# Altium integrated library TI Power Management Buck-Boost Regulator.IntLib: 25 symbols (part 1 of 2)
Pins are listed as number, name and electrical type; pins without a type are passive.

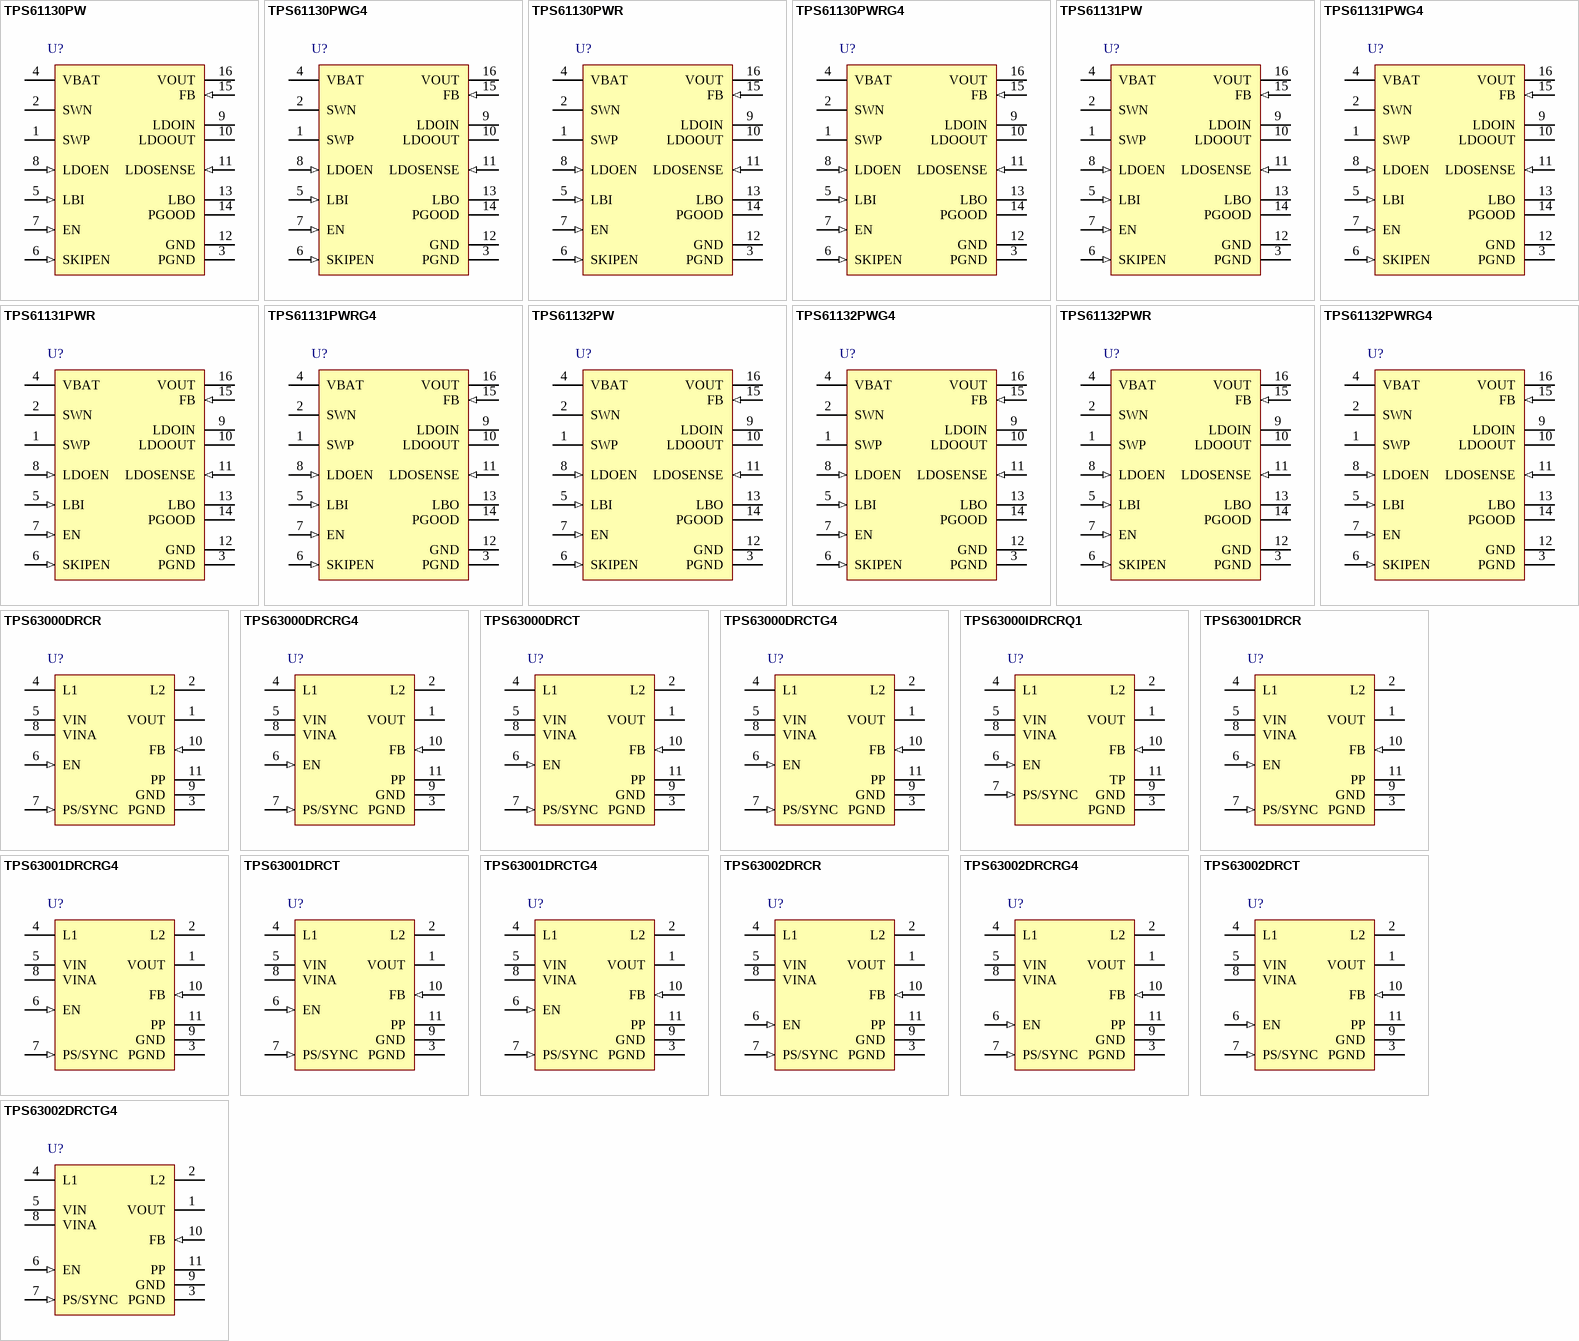
[diagram p0: symbols TPS61130PW to TPS63002DRCTG4]

## TPS61130PW
designator U?
Boost SEPIC Adjustable Converter with 1.8 to 5.5 V Input and 2.5 to 5.5 V Output, -40 to 85 degC, 16-Pin TSSOP (PW), Green (RoHS & no Sb/Br); Manufacturer: Texas Instruments; PartNumber: TPS61130PW; Iout(Max)(A): 1.1; Iq(Typ)(mA): 0.04; Power Good: TRUE; Regulated Outputs(#): 2; SubFamily: Buck-Boost Regulator; Switching Frequency(Max)(kHz): 600; Topology: Boost, SEPIC; Vin(Max)(V): 5.5; Vin(Min)(V): 1.8; Vout(Min)(V): 2.5; DatasheetVersion: SLVS431B; PackageVersion: revG, Feb-2011; PackageReference: PW16; PackageDescription: 16-Pin Plastic Thin Small Outline Package 5 x 4.4 mm Body ,0.65 mm Pitch; Supplier 1: Digi-Key; Supplier Part Number 1: 296-13521-5-ND; Supplier 2: Newark; Supplier Part Number 2: 77C0687; Supplier 3: Mouser; Supplier Part Number 3: 595-TPS61130PW; Eco-Plan: Green (RoHS & no Sb/Br); Synchronous Rectification: TRUE; Vout(Max)(V): 5.5; Mounting Technology: Surface Mount; Code_JEDEC: MO-153; ComponentLink1Description: Datasheet; ComponentLink1URL: http://www.ti.com/general/docs/lit/getliterature.tsp?genericPartNumber=TPS61130&fileType=pdf; ComponentLink2Description: Package Specification; ComponentLink2URL: http://www.ti.com/litv/pdf/mpds361
footprint PW16_N (TSOP, 16-Leads, Body 5x4.4mm, Pitch 0.65mm, IPC Medium Density)
footprint PW16_L (TSOP, 16-Leads, Body 5x4.4mm, Pitch 0.65mm, IPC High Density)
footprint PW16_M (TSOP, 16-Leads, Body 5x4.4mm, Pitch 0.65mm, IPC Low Density)
pins: 1 SWP (power) "DC/DC rectifying switch input", 2 SWN (power) "DC/DC switch input", 3 PGND (power) "Power ground", 4 VBAT (power) "Supply pin", 5 LBI (in) "Low battery comparator input (comparator enabled with EN)", 6 SKIPEN (in) "Enable/disable power save mode (1/VBAT enabled, 0/GND disabled)", 7 EN (in) "DC/DC-enable input. (1/VBAT enabled, 0/GND disabled)", 8 LDOEN (in) "LDO-enable input (1/LDOIN enabled, 0/GND disabled)", 9 LDOIN (power) "LDO input", 10 LDOOUT (power) "LDO output", 11 LDOSENSE (in) "LDO feedback for voltage adjustment, must be connected to LDOOUT at fixed output voltage versions", 12 GND (power) "Control/logic ground", 13 LBO (hiz) "Low battery comparator output (open drain)", 14 PGOOD (hiz) "DC/DC output power good (1 : good, 0 : failure) (open drain)", 15 FB (in) "DC/DC voltage feedback of adjustable versions", 16 VOUT (power) "DC/DC output"

## TPS61130PWG4
designator U?
Boost SEPIC Adjustable Converter with 1.8 to 5.5 V Input and 2.5 to 5.5 V Output, -40 to 85 degC, 16-Pin TSSOP (PW), Green (RoHS & no Sb/Br); Manufacturer: Texas Instruments; PartNumber: TPS61130PWG4; Iout(Max)(A): 1.1; Iq(Typ)(mA): 0.04; Power Good: TRUE; Regulated Outputs(#): 2; SubFamily: Buck-Boost Regulator; Switching Frequency(Max)(kHz): 600; Topology: Boost, SEPIC; Vin(Max)(V): 5.5; Vin(Min)(V): 1.8; Vout(Min)(V): 2.5; DatasheetVersion: SLVS431B; PackageVersion: revG, Feb-2011; PackageReference: PW16; PackageDescription: 16-Pin Plastic Thin Small Outline Package 5 x 4.4 mm Body ,0.65 mm Pitch; Supplier 1: Digi-Key; Supplier Part Number 1: TPS61130PWG4-ND; Supplier 2: Newark; Supplier Part Number 2: 54K1726; Supplier 3: Mouser; Supplier Part Number 3: 595-TPS61130PWG4; Eco-Plan: Green (RoHS & no Sb/Br); Synchronous Rectification: TRUE; Vout(Max)(V): 5.5; Mounting Technology: Surface Mount; Code_JEDEC: MO-153; ComponentLink1Description: Datasheet; ComponentLink1URL: http://www.ti.com/general/docs/lit/getliterature.tsp?genericPartNumber=TPS61130&fileType=pdf; ComponentLink2Description: Package Specification; ComponentLink2URL: http://www.ti.com/litv/pdf/mpds361
footprint PW16_N (TSOP, 16-Leads, Body 5x4.4mm, Pitch 0.65mm, IPC Medium Density)
footprint PW16_L (TSOP, 16-Leads, Body 5x4.4mm, Pitch 0.65mm, IPC High Density)
footprint PW16_M (TSOP, 16-Leads, Body 5x4.4mm, Pitch 0.65mm, IPC Low Density)
pins: 1 SWP (power) "DC/DC rectifying switch input", 2 SWN (power) "DC/DC switch input", 3 PGND (power) "Power ground", 4 VBAT (power) "Supply pin", 5 LBI (in) "Low battery comparator input (comparator enabled with EN)", 6 SKIPEN (in) "Enable/disable power save mode (1/VBAT enabled, 0/GND disabled)", 7 EN (in) "DC/DC-enable input. (1/VBAT enabled, 0/GND disabled)", 8 LDOEN (in) "LDO-enable input (1/LDOIN enabled, 0/GND disabled)", 9 LDOIN (power) "LDO input", 10 LDOOUT (power) "LDO output", 11 LDOSENSE (in) "LDO feedback for voltage adjustment, must be connected to LDOOUT at fixed output voltage versions", 12 GND (power) "Control/logic ground", 13 LBO (hiz) "Low battery comparator output (open drain)", 14 PGOOD (hiz) "DC/DC output power good (1 : good, 0 : failure) (open drain)", 15 FB (in) "DC/DC voltage feedback of adjustable versions", 16 VOUT (power) "DC/DC output"

## TPS61130PWR
designator U?
Boost SEPIC Adjustable Converter with 1.8 to 5.5 V Input and 2.5 to 5.5 V Output, -40 to 85 degC, 16-Pin TSSOP (PW), Green (RoHS & no Sb/Br); Manufacturer: Texas Instruments; PartNumber: TPS61130PWR; Iout(Max)(A): 1.1; Iq(Typ)(mA): 0.04; Power Good: TRUE; Regulated Outputs(#): 2; SubFamily: Buck-Boost Regulator; Switching Frequency(Max)(kHz): 600; Topology: Boost, SEPIC; Vin(Max)(V): 5.5; Vin(Min)(V): 1.8; Vout(Min)(V): 2.5; DatasheetVersion: SLVS431B; PackageVersion: revG, Feb-2011; PackageReference: PW16; PackageDescription: 16-Pin Plastic Thin Small Outline Package 5 x 4.4 mm Body ,0.65 mm Pitch; Supplier 1: Digi-Key; Supplier Part Number 1: TPS61130PWR-ND; Supplier 2: Newark; Supplier Part Number 2: 77C0688; Supplier 3: Mouser; Supplier Part Number 3: 595-TPS61130PWR; Eco-Plan: Green (RoHS & no Sb/Br); Synchronous Rectification: TRUE; Vout(Max)(V): 5.5; Mounting Technology: Surface Mount; Code_JEDEC: MO-153; ComponentLink1Description: Datasheet; ComponentLink1URL: http://www.ti.com/general/docs/lit/getliterature.tsp?genericPartNumber=TPS61130&fileType=pdf; ComponentLink2Description: Package Specification; ComponentLink2URL: http://www.ti.com/litv/pdf/mpds361
footprint PW16_N (TSOP, 16-Leads, Body 5x4.4mm, Pitch 0.65mm, IPC Medium Density)
footprint PW16_L (TSOP, 16-Leads, Body 5x4.4mm, Pitch 0.65mm, IPC High Density)
footprint PW16_M (TSOP, 16-Leads, Body 5x4.4mm, Pitch 0.65mm, IPC Low Density)
pins: 1 SWP (power) "DC/DC rectifying switch input", 2 SWN (power) "DC/DC switch input", 3 PGND (power) "Power ground", 4 VBAT (power) "Supply pin", 5 LBI (in) "Low battery comparator input (comparator enabled with EN)", 6 SKIPEN (in) "Enable/disable power save mode (1/VBAT enabled, 0/GND disabled)", 7 EN (in) "DC/DC-enable input. (1/VBAT enabled, 0/GND disabled)", 8 LDOEN (in) "LDO-enable input (1/LDOIN enabled, 0/GND disabled)", 9 LDOIN (power) "LDO input", 10 LDOOUT (power) "LDO output", 11 LDOSENSE (in) "LDO feedback for voltage adjustment, must be connected to LDOOUT at fixed output voltage versions", 12 GND (power) "Control/logic ground", 13 LBO (hiz) "Low battery comparator output (open drain)", 14 PGOOD (hiz) "DC/DC output power good (1 : good, 0 : failure) (open drain)", 15 FB (in) "DC/DC voltage feedback of adjustable versions", 16 VOUT (power) "DC/DC output"

## TPS61130PWRG4
designator U?
Boost SEPIC Adjustable Converter with 1.8 to 5.5 V Input and 2.5 to 5.5 V Output, -40 to 85 degC, 16-Pin TSSOP (PW), Green (RoHS & no Sb/Br); Manufacturer: Texas Instruments; PartNumber: TPS61130PWRG4; Iout(Max)(A): 1.1; Iq(Typ)(mA): 0.04; Power Good: TRUE; Regulated Outputs(#): 2; SubFamily: Buck-Boost Regulator; Switching Frequency(Max)(kHz): 600; Topology: Boost, SEPIC; Vin(Max)(V): 5.5; Vin(Min)(V): 1.8; Vout(Min)(V): 2.5; DatasheetVersion: SLVS431B; PackageVersion: revG, Feb-2011; PackageReference: PW16; PackageDescription: 16-Pin Plastic Thin Small Outline Package 5 x 4.4 mm Body ,0.65 mm Pitch; Supplier 1: Digi-Key; Supplier Part Number 1: TPS61130PWRG4-ND; Supplier 2: Newark; Supplier Part Number 2: 54K1727; Supplier 3: Mouser; Supplier Part Number 3: 595-TPS61130PWRG4; Eco-Plan: Green (RoHS & no Sb/Br); Synchronous Rectification: TRUE; Vout(Max)(V): 5.5; Mounting Technology: Surface Mount; Code_JEDEC: MO-153; ComponentLink1Description: Datasheet; ComponentLink1URL: http://www.ti.com/general/docs/lit/getliterature.tsp?genericPartNumber=TPS61130&fileType=pdf; ComponentLink2Description: Package Specification; ComponentLink2URL: http://www.ti.com/litv/pdf/mpds361
footprint PW16_N (TSOP, 16-Leads, Body 5x4.4mm, Pitch 0.65mm, IPC Medium Density)
footprint PW16_L (TSOP, 16-Leads, Body 5x4.4mm, Pitch 0.65mm, IPC High Density)
footprint PW16_M (TSOP, 16-Leads, Body 5x4.4mm, Pitch 0.65mm, IPC Low Density)
pins: 1 SWP (power) "DC/DC rectifying switch input", 2 SWN (power) "DC/DC switch input", 3 PGND (power) "Power ground", 4 VBAT (power) "Supply pin", 5 LBI (in) "Low battery comparator input (comparator enabled with EN)", 6 SKIPEN (in) "Enable/disable power save mode (1/VBAT enabled, 0/GND disabled)", 7 EN (in) "DC/DC-enable input. (1/VBAT enabled, 0/GND disabled)", 8 LDOEN (in) "LDO-enable input (1/LDOIN enabled, 0/GND disabled)", 9 LDOIN (power) "LDO input", 10 LDOOUT (power) "LDO output", 11 LDOSENSE (in) "LDO feedback for voltage adjustment, must be connected to LDOOUT at fixed output voltage versions", 12 GND (power) "Control/logic ground", 13 LBO (hiz) "Low battery comparator output (open drain)", 14 PGOOD (hiz) "DC/DC output power good (1 : good, 0 : failure) (open drain)", 15 FB (in) "DC/DC voltage feedback of adjustable versions", 16 VOUT (power) "DC/DC output"

## TPS61131PW
designator U?
Boost SEPIC Voltage Converter with 1.8 to 5.5 V Input and 3.3 V Output, -40 to 85 degC, 16-Pin TSSOP (PW), Green (RoHS & no Sb/Br); Manufacturer: Texas Instruments; PartNumber: TPS61131PW; Iout(Max)(A): 1.1; Iq(Typ)(mA): 0.04; Power Good: TRUE; Preset Vout(V): 3.3; Regulated Outputs(#): 2; SubFamily: Buck-Boost Regulator; Switching Frequency(Max)(kHz): 600; Topology: Boost, SEPIC; Vin(Max)(V): 5.5; Vin(Min)(V): 1.8; DatasheetVersion: SLVS431B; PackageVersion: revG, Feb-2011; PackageReference: PW16; PackageDescription: 16-Pin Plastic Thin Small Outline Package 5 x 4.4 mm Body ,0.65 mm Pitch; Supplier 1: Digi-Key; Supplier Part Number 1: 296-13522-5-ND; Supplier 2: Newark; Supplier Part Number 2: 77C0689; Supplier 3: Mouser; Supplier Part Number 3: 595-TPS61131PW; Eco-Plan: Green (RoHS & no Sb/Br); Synchronous Rectification: TRUE; Vout(Max)(V): 3.3; Vout(Min)(V): 3.3; Mounting Technology: Surface Mount; Code_JEDEC: MO-153; ComponentLink1Description: Datasheet; ComponentLink1URL: http://www.ti.com/general/docs/lit/getliterature.tsp?genericPartNumber=TPS61131&fileType=pdf; ComponentLink2Description: Package Specification; ComponentLink2URL: http://www.ti.com/litv/pdf/mpds361
footprint PW16_N (TSOP, 16-Leads, Body 5x4.4mm, Pitch 0.65mm, IPC Medium Density)
footprint PW16_L (TSOP, 16-Leads, Body 5x4.4mm, Pitch 0.65mm, IPC High Density)
footprint PW16_M (TSOP, 16-Leads, Body 5x4.4mm, Pitch 0.65mm, IPC Low Density)
pins: 1 SWP (power) "DC/DC rectifying switch input", 2 SWN (power) "DC/DC switch input", 3 PGND (power) "Power ground", 4 VBAT (power) "Supply pin", 5 LBI (in) "Low battery comparator input (comparator enabled with EN)", 6 SKIPEN (in) "Enable/disable power save mode (1/VBAT enabled, 0/GND disabled)", 7 EN (in) "DC/DC-enable input. (1/VBAT enabled, 0/GND disabled)", 8 LDOEN (in) "LDO-enable input (1/LDOIN enabled, 0/GND disabled)", 9 LDOIN (power) "LDO input", 10 LDOOUT (power) "LDO output", 11 LDOSENSE (in) "LDO feedback for voltage adjustment, must be connected to LDOOUT at fixed output voltage versions", 12 GND (power) "Control/logic ground", 13 LBO (hiz) "Low battery comparator output (open drain)", 14 PGOOD (hiz) "DC/DC output power good (1 : good, 0 : failure) (open drain)", 15 FB (in) "DC/DC voltage feedback of adjustable versions", 16 VOUT (power) "DC/DC output"

## TPS61131PWG4
designator U?
Boost SEPIC Voltage Converter with 1.8 to 5.5 V Input and 3.3 V Output, -40 to 85 degC, 16-Pin TSSOP (PW), Green (RoHS & no Sb/Br); Manufacturer: Texas Instruments; PartNumber: TPS61131PWG4; Iout(Max)(A): 1.1; Iq(Typ)(mA): 0.04; Power Good: TRUE; Preset Vout(V): 3.3; Regulated Outputs(#): 2; SubFamily: Buck-Boost Regulator; Switching Frequency(Max)(kHz): 600; Topology: Boost, SEPIC; Vin(Max)(V): 5.5; Vin(Min)(V): 1.8; DatasheetVersion: SLVS431B; PackageVersion: revG, Feb-2011; PackageReference: PW16; PackageDescription: 16-Pin Plastic Thin Small Outline Package 5 x 4.4 mm Body ,0.65 mm Pitch; Supplier 1: Digi-Key; Supplier Part Number 1: TPS61131PWG4-ND; Supplier 2: Newark; Supplier Part Number 2: 99K4413; Supplier 3: Mouser; Supplier Part Number 3: 595-TPS61131PWG4; Eco-Plan: Green (RoHS & no Sb/Br); Synchronous Rectification: TRUE; Vout(Max)(V): 3.3; Vout(Min)(V): 3.3; Mounting Technology: Surface Mount; Code_JEDEC: MO-153; ComponentLink1Description: Datasheet; ComponentLink1URL: http://www.ti.com/general/docs/lit/getliterature.tsp?genericPartNumber=TPS61131&fileType=pdf; ComponentLink2Description: Package Specification; ComponentLink2URL: http://www.ti.com/litv/pdf/mpds361
footprint PW16_N (TSOP, 16-Leads, Body 5x4.4mm, Pitch 0.65mm, IPC Medium Density)
footprint PW16_L (TSOP, 16-Leads, Body 5x4.4mm, Pitch 0.65mm, IPC High Density)
footprint PW16_M (TSOP, 16-Leads, Body 5x4.4mm, Pitch 0.65mm, IPC Low Density)
pins: 1 SWP (power) "DC/DC rectifying switch input", 2 SWN (power) "DC/DC switch input", 3 PGND (power) "Power ground", 4 VBAT (power) "Supply pin", 5 LBI (in) "Low battery comparator input (comparator enabled with EN)", 6 SKIPEN (in) "Enable/disable power save mode (1/VBAT enabled, 0/GND disabled)", 7 EN (in) "DC/DC-enable input. (1/VBAT enabled, 0/GND disabled)", 8 LDOEN (in) "LDO-enable input (1/LDOIN enabled, 0/GND disabled)", 9 LDOIN (power) "LDO input", 10 LDOOUT (power) "LDO output", 11 LDOSENSE (in) "LDO feedback for voltage adjustment, must be connected to LDOOUT at fixed output voltage versions", 12 GND (power) "Control/logic ground", 13 LBO (hiz) "Low battery comparator output (open drain)", 14 PGOOD (hiz) "DC/DC output power good (1 : good, 0 : failure) (open drain)", 15 FB (in) "DC/DC voltage feedback of adjustable versions", 16 VOUT (power) "DC/DC output"

## TPS61131PWR
designator U?
Boost SEPIC Voltage Converter with 1.8 to 5.5 V Input and 3.3 V Output, -40 to 85 degC, 16-Pin TSSOP (PW), Green (RoHS & no Sb/Br); Manufacturer: Texas Instruments; PartNumber: TPS61131PWR; Iout(Max)(A): 1.1; Iq(Typ)(mA): 0.04; Power Good: TRUE; Preset Vout(V): 3.3; Regulated Outputs(#): 2; SubFamily: Buck-Boost Regulator; Switching Frequency(Max)(kHz): 600; Topology: Boost, SEPIC; Vin(Max)(V): 5.5; Vin(Min)(V): 1.8; DatasheetVersion: SLVS431B; PackageVersion: revG, Feb-2011; PackageReference: PW16; PackageDescription: 16-Pin Plastic Thin Small Outline Package 5 x 4.4 mm Body ,0.65 mm Pitch; Supplier 1: Digi-Key; Supplier Part Number 1: TPS61131PWR-ND; Supplier 2: Newark; Supplier Part Number 2: 77C0690; Supplier 3: Mouser; Supplier Part Number 3: 595-TPS61131PWR; Eco-Plan: Green (RoHS & no Sb/Br); Synchronous Rectification: TRUE; Vout(Max)(V): 3.3; Vout(Min)(V): 3.3; Mounting Technology: Surface Mount; Code_JEDEC: MO-153; ComponentLink1Description: Datasheet; ComponentLink1URL: http://www.ti.com/general/docs/lit/getliterature.tsp?genericPartNumber=TPS61131&fileType=pdf; ComponentLink2Description: Package Specification; ComponentLink2URL: http://www.ti.com/litv/pdf/mpds361
footprint PW16_N (TSOP, 16-Leads, Body 5x4.4mm, Pitch 0.65mm, IPC Medium Density)
footprint PW16_L (TSOP, 16-Leads, Body 5x4.4mm, Pitch 0.65mm, IPC High Density)
footprint PW16_M (TSOP, 16-Leads, Body 5x4.4mm, Pitch 0.65mm, IPC Low Density)
pins: 1 SWP (power) "DC/DC rectifying switch input", 2 SWN (power) "DC/DC switch input", 3 PGND (power) "Power ground", 4 VBAT (power) "Supply pin", 5 LBI (in) "Low battery comparator input (comparator enabled with EN)", 6 SKIPEN (in) "Enable/disable power save mode (1/VBAT enabled, 0/GND disabled)", 7 EN (in) "DC/DC-enable input. (1/VBAT enabled, 0/GND disabled)", 8 LDOEN (in) "LDO-enable input (1/LDOIN enabled, 0/GND disabled)", 9 LDOIN (power) "LDO input", 10 LDOOUT (power) "LDO output", 11 LDOSENSE (in) "LDO feedback for voltage adjustment, must be connected to LDOOUT at fixed output voltage versions", 12 GND (power) "Control/logic ground", 13 LBO (hiz) "Low battery comparator output (open drain)", 14 PGOOD (hiz) "DC/DC output power good (1 : good, 0 : failure) (open drain)", 15 FB (in) "DC/DC voltage feedback of adjustable versions", 16 VOUT (power) "DC/DC output"

## TPS61131PWRG4
designator U?
Boost SEPIC Voltage Converter with 1.8 to 5.5 V Input and 3.3 V Output, -40 to 85 degC, 16-Pin TSSOP (PW), Green (RoHS & no Sb/Br); Manufacturer: Texas Instruments; PartNumber: TPS61131PWRG4; Iout(Max)(A): 1.1; Iq(Typ)(mA): 0.04; Power Good: TRUE; Preset Vout(V): 3.3; Regulated Outputs(#): 2; SubFamily: Buck-Boost Regulator; Switching Frequency(Max)(kHz): 600; Topology: Boost, SEPIC; Vin(Max)(V): 5.5; Vin(Min)(V): 1.8; DatasheetVersion: SLVS431B; PackageVersion: revG, Feb-2011; PackageReference: PW16; PackageDescription: 16-Pin Plastic Thin Small Outline Package 5 x 4.4 mm Body ,0.65 mm Pitch; Supplier 1: Digi-Key; Supplier Part Number 1: TPS61131PWRG4-ND; Supplier 2: Newark; Supplier Part Number 2: 54K1729; Supplier 3: Mouser; Supplier Part Number 3: 595-TPS61131PWRG4; Eco-Plan: Green (RoHS & no Sb/Br); Synchronous Rectification: TRUE; Vout(Max)(V): 3.3; Vout(Min)(V): 3.3; Mounting Technology: Surface Mount; Code_JEDEC: MO-153; ComponentLink1Description: Datasheet; ComponentLink1URL: http://www.ti.com/general/docs/lit/getliterature.tsp?genericPartNumber=TPS61131&fileType=pdf; ComponentLink2Description: Package Specification; ComponentLink2URL: http://www.ti.com/litv/pdf/mpds361
footprint PW16_N (TSOP, 16-Leads, Body 5x4.4mm, Pitch 0.65mm, IPC Medium Density)
footprint PW16_L (TSOP, 16-Leads, Body 5x4.4mm, Pitch 0.65mm, IPC High Density)
footprint PW16_M (TSOP, 16-Leads, Body 5x4.4mm, Pitch 0.65mm, IPC Low Density)
pins: 1 SWP (power) "DC/DC rectifying switch input", 2 SWN (power) "DC/DC switch input", 3 PGND (power) "Power ground", 4 VBAT (power) "Supply pin", 5 LBI (in) "Low battery comparator input (comparator enabled with EN)", 6 SKIPEN (in) "Enable/disable power save mode (1/VBAT enabled, 0/GND disabled)", 7 EN (in) "DC/DC-enable input. (1/VBAT enabled, 0/GND disabled)", 8 LDOEN (in) "LDO-enable input (1/LDOIN enabled, 0/GND disabled)", 9 LDOIN (power) "LDO input", 10 LDOOUT (power) "LDO output", 11 LDOSENSE (in) "LDO feedback for voltage adjustment, must be connected to LDOOUT at fixed output voltage versions", 12 GND (power) "Control/logic ground", 13 LBO (hiz) "Low battery comparator output (open drain)", 14 PGOOD (hiz) "DC/DC output power good (1 : good, 0 : failure) (open drain)", 15 FB (in) "DC/DC voltage feedback of adjustable versions", 16 VOUT (power) "DC/DC output"

## TPS61132PW
designator U?
Boost SEPIC Voltage Converter with 1.8 to 5.5 V Input and 3.3 V Output, -40 to 85 degC, 16-Pin TSSOP (PW), Green (RoHS & no Sb/Br); Manufacturer: Texas Instruments; PartNumber: TPS61132PW; Iout(Max)(A): 1.1; Iq(Typ)(mA): 0.04; Power Good: TRUE; Preset Vout(V): 3.3; Regulated Outputs(#): 2; SubFamily: Buck-Boost Regulator; Switching Frequency(Max)(kHz): 600; Topology: Boost, SEPIC; Vin(Max)(V): 5.5; Vin(Min)(V): 1.8; DatasheetVersion: SLVS431B; PackageVersion: revG, Feb-2011; PackageReference: PW16; PackageDescription: 16-Pin Plastic Thin Small Outline Package 5 x 4.4 mm Body ,0.65 mm Pitch; Supplier 1: Digi-Key; Supplier Part Number 1: 296-13523-5-ND; Supplier 2: Newark; Supplier Part Number 2: 77C0691; Supplier 3: Mouser; Supplier Part Number 3: 595-TPS61132PW; Eco-Plan: Green (RoHS & no Sb/Br); Synchronous Rectification: TRUE; Vout(Max)(V): 3.3; Vout(Min)(V): 3.3; Mounting Technology: Surface Mount; Code_JEDEC: MO-153; ComponentLink1Description: Datasheet; ComponentLink1URL: http://www.ti.com/general/docs/lit/getliterature.tsp?genericPartNumber=TPS61132&fileType=pdf; ComponentLink2Description: Package Specification; ComponentLink2URL: http://www.ti.com/litv/pdf/mpds361
footprint PW16_N (TSOP, 16-Leads, Body 5x4.4mm, Pitch 0.65mm, IPC Medium Density)
footprint PW16_L (TSOP, 16-Leads, Body 5x4.4mm, Pitch 0.65mm, IPC High Density)
footprint PW16_M (TSOP, 16-Leads, Body 5x4.4mm, Pitch 0.65mm, IPC Low Density)
pins: 1 SWP (power) "DC/DC rectifying switch input", 2 SWN (power) "DC/DC switch input", 3 PGND (power) "Power ground", 4 VBAT (power) "Supply pin", 5 LBI (in) "Low battery comparator input (comparator enabled with EN)", 6 SKIPEN (in) "Enable/disable power save mode (1/VBAT enabled, 0/GND disabled)", 7 EN (in) "DC/DC-enable input. (1/VBAT enabled, 0/GND disabled)", 8 LDOEN (in) "LDO-enable input (1/LDOIN enabled, 0/GND disabled)", 9 LDOIN (power) "LDO input", 10 LDOOUT (power) "LDO output", 11 LDOSENSE (in) "LDO feedback for voltage adjustment, must be connected to LDOOUT at fixed output voltage versions", 12 GND (power) "Control/logic ground", 13 LBO (hiz) "Low battery comparator output (open drain)", 14 PGOOD (hiz) "DC/DC output power good (1 : good, 0 : failure) (open drain)", 15 FB (in) "DC/DC voltage feedback of adjustable versions", 16 VOUT (power) "DC/DC output"

## TPS61132PWG4
designator U?
Boost SEPIC Voltage Converter with 1.8 to 5.5 V Input and 3.3 V Output, -40 to 85 degC, 16-Pin TSSOP (PW), Green (RoHS & no Sb/Br); Manufacturer: Texas Instruments; PartNumber: TPS61132PWG4; Iout(Max)(A): 1.1; Iq(Typ)(mA): 0.04; Power Good: TRUE; Preset Vout(V): 3.3; Regulated Outputs(#): 2; SubFamily: Buck-Boost Regulator; Switching Frequency(Max)(kHz): 600; Topology: Boost, SEPIC; Vin(Max)(V): 5.5; Vin(Min)(V): 1.8; DatasheetVersion: SLVS431B; PackageVersion: revG, Feb-2011; PackageReference: PW16; PackageDescription: 16-Pin Plastic Thin Small Outline Package 5 x 4.4 mm Body ,0.65 mm Pitch; Supplier 1: Digi-Key; Supplier Part Number 1: TPS61132PWG4-ND; Supplier 2: Newark; Supplier Part Number 2: 54K1730; Supplier 3: Mouser; Supplier Part Number 3: 595-TPS61132PWG4; Eco-Plan: Green (RoHS & no Sb/Br); Synchronous Rectification: TRUE; Vout(Max)(V): 3.3; Vout(Min)(V): 3.3; Mounting Technology: Surface Mount; Code_JEDEC: MO-153; ComponentLink1Description: Datasheet; ComponentLink1URL: http://www.ti.com/general/docs/lit/getliterature.tsp?genericPartNumber=TPS61132&fileType=pdf; ComponentLink2Description: Package Specification; ComponentLink2URL: http://www.ti.com/litv/pdf/mpds361
footprint PW16_N (TSOP, 16-Leads, Body 5x4.4mm, Pitch 0.65mm, IPC Medium Density)
footprint PW16_L (TSOP, 16-Leads, Body 5x4.4mm, Pitch 0.65mm, IPC High Density)
footprint PW16_M (TSOP, 16-Leads, Body 5x4.4mm, Pitch 0.65mm, IPC Low Density)
pins: 1 SWP (power) "DC/DC rectifying switch input", 2 SWN (power) "DC/DC switch input", 3 PGND (power) "Power ground", 4 VBAT (power) "Supply pin", 5 LBI (in) "Low battery comparator input (comparator enabled with EN)", 6 SKIPEN (in) "Enable/disable power save mode (1/VBAT enabled, 0/GND disabled)", 7 EN (in) "DC/DC-enable input. (1/VBAT enabled, 0/GND disabled)", 8 LDOEN (in) "LDO-enable input (1/LDOIN enabled, 0/GND disabled)", 9 LDOIN (power) "LDO input", 10 LDOOUT (power) "LDO output", 11 LDOSENSE (in) "LDO feedback for voltage adjustment, must be connected to LDOOUT at fixed output voltage versions", 12 GND (power) "Control/logic ground", 13 LBO (hiz) "Low battery comparator output (open drain)", 14 PGOOD (hiz) "DC/DC output power good (1 : good, 0 : failure) (open drain)", 15 FB (in) "DC/DC voltage feedback of adjustable versions", 16 VOUT (power) "DC/DC output"

## TPS61132PWR
designator U?
Boost SEPIC Voltage Converter with 1.8 to 5.5 V Input and 3.3 V Output, -40 to 85 degC, 16-Pin TSSOP (PW); Manufacturer: Texas Instruments; PartNumber: TPS61132PWR; Eco-Plan: Green (RoHS & no Sb/Br); Iout(Max)(A): 1.1; Iq(Typ)(mA): 0.04; Power Good: TRUE; Preset Vout(V): 3.3; Regulated Outputs(#): 2; SubFamily: Buck-Boost Regulator; Switching Frequency(Max)(kHz): 600; Topology: Boost, SEPIC; Vin(Max)(V): 5.5; Vin(Min)(V): 1.8; DatasheetVersion: SLVS431B; PackageVersion: revG, Feb-2011; PackageReference: PW16; PackageDescription: 16-Pin Plastic Thin Small Outline Package 5 x 4.4 mm Body ,0.65 mm Pitch; Supplier 1: Digi-Key; Supplier Part Number 1: TPS61132PWR-ND; Supplier 2: Newark; Supplier Part Number 2: 77C0692; Supplier 3: Mouser; Supplier Part Number 3: 595-TPS61132PWR; Synchronous Rectification: TRUE; Vout(Max)(V): 3.3; Vout(Min)(V): 3.3; Mounting Technology: Surface Mount; Code_JEDEC: MO-153; ComponentLink1Description: Datasheet; ComponentLink1URL: http://www.ti.com/general/docs/lit/getliterature.tsp?genericPartNumber=TPS61132&fileType=pdf; ComponentLink2Description: Package Specification; ComponentLink2URL: http://www.ti.com/litv/pdf/mpds361
footprint PW16_N (TSOP, 16-Leads, Body 5x4.4mm, Pitch 0.65mm, IPC Medium Density)
footprint PW16_L (TSOP, 16-Leads, Body 5x4.4mm, Pitch 0.65mm, IPC High Density)
footprint PW16_M (TSOP, 16-Leads, Body 5x4.4mm, Pitch 0.65mm, IPC Low Density)
pins: 1 SWP (power) "DC/DC rectifying switch input", 2 SWN (power) "DC/DC switch input", 3 PGND (power) "Power ground", 4 VBAT (power) "Supply pin", 5 LBI (in) "Low battery comparator input (comparator enabled with EN)", 6 SKIPEN (in) "Enable/disable power save mode (1/VBAT enabled, 0/GND disabled)", 7 EN (in) "DC/DC-enable input. (1/VBAT enabled, 0/GND disabled)", 8 LDOEN (in) "LDO-enable input (1/LDOIN enabled, 0/GND disabled)", 9 LDOIN (power) "LDO input", 10 LDOOUT (power) "LDO output", 11 LDOSENSE (in) "LDO feedback for voltage adjustment, must be connected to LDOOUT at fixed output voltage versions", 12 GND (power) "Control/logic ground", 13 LBO (hiz) "Low battery comparator output (open drain)", 14 PGOOD (hiz) "DC/DC output power good (1 : good, 0 : failure) (open drain)", 15 FB (in) "DC/DC voltage feedback of adjustable versions", 16 VOUT (power) "DC/DC output"

## TPS61132PWRG4
designator U?
Boost SEPIC Voltage Converter with 1.8 to 5.5 V Input and 3.3 V Output, -40 to 85 degC, 16-Pin TSSOP (PW); Manufacturer: Texas Instruments; PartNumber: TPS61132PWRG4; Eco-Plan: Green (RoHS & no Sb/Br); Iout(Max)(A): 1.1; Iq(Typ)(mA): 0.04; Power Good: TRUE; Preset Vout(V): 3.3; Regulated Outputs(#): 2; SubFamily: Buck-Boost Regulator; Switching Frequency(Max)(kHz): 600; Topology: Boost, SEPIC; Vin(Max)(V): 5.5; Vin(Min)(V): 1.8; DatasheetVersion: SLVS431B; PackageVersion: revG, Feb-2011; PackageReference: PW16; PackageDescription: 16-Pin Plastic Thin Small Outline Package 5 x 4.4 mm Body ,0.65 mm Pitch; Supplier 1: Digi-Key; Supplier Part Number 1: TPS61132PWRG4-ND; Supplier 2: Newark; Supplier Part Number 2: 54K1731; Supplier 3: Mouser; Supplier Part Number 3: 595-TPS61132PWRG4; Synchronous Rectification: TRUE; Vout(Max)(V): 3.3; Vout(Min)(V): 3.3; Mounting Technology: Surface Mount; Code_JEDEC: MO-153; ComponentLink1Description: Datasheet; ComponentLink1URL: http://www.ti.com/general/docs/lit/getliterature.tsp?genericPartNumber=TPS61132&fileType=pdf; ComponentLink2Description: Package Specification; ComponentLink2URL: http://www.ti.com/litv/pdf/mpds361
footprint PW16_N (TSOP, 16-Leads, Body 5x4.4mm, Pitch 0.65mm, IPC Medium Density)
footprint PW16_L (TSOP, 16-Leads, Body 5x4.4mm, Pitch 0.65mm, IPC High Density)
footprint PW16_M (TSOP, 16-Leads, Body 5x4.4mm, Pitch 0.65mm, IPC Low Density)
pins: 1 SWP (power) "DC/DC rectifying switch input", 2 SWN (power) "DC/DC switch input", 3 PGND (power) "Power ground", 4 VBAT (power) "Supply pin", 5 LBI (in) "Low battery comparator input (comparator enabled with EN)", 6 SKIPEN (in) "Enable/disable power save mode (1/VBAT enabled, 0/GND disabled)", 7 EN (in) "DC/DC-enable input. (1/VBAT enabled, 0/GND disabled)", 8 LDOEN (in) "LDO-enable input (1/LDOIN enabled, 0/GND disabled)", 9 LDOIN (power) "LDO input", 10 LDOOUT (power) "LDO output", 11 LDOSENSE (in) "LDO feedback for voltage adjustment, must be connected to LDOOUT at fixed output voltage versions", 12 GND (power) "Control/logic ground", 13 LBO (hiz) "Low battery comparator output (open drain)", 14 PGOOD (hiz) "DC/DC output power good (1 : good, 0 : failure) (open drain)", 15 FB (in) "DC/DC voltage feedback of adjustable versions", 16 VOUT (power) "DC/DC output"

## TPS63000DRCR
designator U?
Buck-Boost Voltage Converter with 1.8 to 5.5 V Input and 1.2 to 5.5 V Output, -40 to 85 degC, 10-Pin SON (DRC), Green (RoHS & no Sb/Br); Manufacturer: Texas Instruments; PartNumber: TPS63000DRCR; Dynamic Voltage Scaling: TRUE; Iout(Max)(A): 1.2; Iq(Typ)(mA): 0.04; Regulated Outputs(#): 1; SubFamily: Buck-Boost Regulator; Switching Frequency(Max)(kHz): 1500; Vin(Max)(V): 5.5; Vin(Min)(V): 1.8; DatasheetVersion: SLVS520B; PackageVersion: revL, Sep-2011; PackageReference: DRC10-2400X1650TP; PackageDescription: 10-Pin Plastic Small Outline No-Lead, 3 x 3 x 1 mm Body, 0.5 mm Pitch, Exposed Pad; Supplier 1: Digi-Key; Supplier Part Number 1: 296-19641-2-ND; Supplier 2: Digi-Key; Supplier Part Number 2: 296-19641-1-ND; Supplier 3: Digi-Key; Supplier Part Number 3: 296-19641-6-ND; Supplier 4: Newark; Supplier Part Number 4: 85K1709; Supplier 5: Mouser; Supplier Part Number 5: 595-TPS63000DRCR; Eco-Plan: Green (RoHS & no Sb/Br); Synchronous Rectification: TRUE; Topology: Buck-Boost; Vout(Max)(V): 5.5; Vout(Min)(V): 1.2; Mounting Technology: Surface Mount; ComponentLink1Description: Datasheet; ComponentLink1URL: http://www.ti.com/general/docs/lit/getliterature.tsp?genericPartNumber=TPS63000&fileType=pdf; ComponentLink2Description: Package Specification; ComponentLink2URL: http://www.ti.com/litv/pdf/mpds117k
footprint DRC10-2400X1650TP (SON, 10-Leads, Body 3x3mm, Pitch 0.5mm, Thermal Pad 2.4x1.65mm, TI Recommended)
pins: 1 VOUT (power) "Buck-boost converter output", 2 L2 "Connection for Inductor", 3 PGND (power) "Power ground", 4 L1 "Connection for Inductor", 5 VIN (power) "Supply voltage for power stage", 6 EN (in) "Enable input. (1 enabled, 0 disabled)", 7 PS/SYNC (in) "Enable / disable power save mode (1 disabled, 0 enabled, clock signal for synchronization)", 8 VINA (power) "Supply voltage for control stage", 9 GND (power) "Control / logic ground", 10 FB (in) "Voltage feedback of adjustable versions, must be connected to VOUT on fixed output voltage versions", 11 PP (power) "Must be soldered to achieve appropriate power dissipation. Should be connected to PGND."

## TPS63000DRCRG4
designator U?
Buck-Boost Voltage Converter with 1.8 to 5.5 V Input and 1.2 to 5.5 V Output, -40 to 85 degC, 10-Pin SON (DRC), Green (RoHS & no Sb/Br); Manufacturer: Texas Instruments; PartNumber: TPS63000DRCRG4; Dynamic Voltage Scaling: TRUE; Iout(Max)(A): 1.2; Iq(Typ)(mA): 0.04; Regulated Outputs(#): 1; SubFamily: Buck-Boost Regulator; Switching Frequency(Max)(kHz): 1500; Vin(Max)(V): 5.5; Vin(Min)(V): 1.8; DatasheetVersion: SLVS520B; PackageVersion: revL, Sep-2011; PackageReference: DRC10-2400X1650TP; PackageDescription: 10-Pin Plastic Small Outline No-Lead, 3 x 3 x 1 mm Body, 0.5 mm Pitch, Exposed Pad; Supplier 1: Digi-Key; Supplier Part Number 1: TPS63000DRCRG4-ND; Supplier 2: Farnell; Supplier Part Number 2: 1215594; Supplier 3: Newark; Supplier Part Number 3: 98K1831; Supplier 4: Newark; Supplier Part Number 4: 85K1710; Supplier 5: Mouser; Supplier Part Number 5: 595-TPS63000DRCRG4; Eco-Plan: Green (RoHS & no Sb/Br); Synchronous Rectification: TRUE; Topology: Buck-Boost; Vout(Max)(V): 5.5; Vout(Min)(V): 1.2; Mounting Technology: Surface Mount; ComponentLink1Description: Datasheet; ComponentLink1URL: http://www.ti.com/general/docs/lit/getliterature.tsp?genericPartNumber=TPS63000&fileType=pdf; ComponentLink2Description: Package Specification; ComponentLink2URL: http://www.ti.com/litv/pdf/mpds117k
footprint DRC10-2400X1650TP (SON, 10-Leads, Body 3x3mm, Pitch 0.5mm, Thermal Pad 2.4x1.65mm, TI Recommended)
pins: 1 VOUT (power) "Buck-boost converter output", 2 L2 "Connection for Inductor", 3 PGND (power) "Power ground", 4 L1 "Connection for Inductor", 5 VIN (power) "Supply voltage for power stage", 6 EN (in) "Enable input. (1 enabled, 0 disabled)", 7 PS/SYNC (in) "Enable / disable power save mode (1 disabled, 0 enabled, clock signal for synchronization)", 8 VINA (power) "Supply voltage for control stage", 9 GND (power) "Control / logic ground", 10 FB (in) "Voltage feedback of adjustable versions, must be connected to VOUT on fixed output voltage versions", 11 PP (power) "Must be soldered to achieve appropriate power dissipation. Should be connected to PGND."

## TPS63000DRCT
designator U?
Buck-Boost Voltage Converter with 1.8 to 5.5 V Input and 1.2 to 5.5 V Output, -40 to 85 degC, 10-Pin SON (DRC), Green (RoHS & no Sb/Br); Manufacturer: Texas Instruments; PartNumber: TPS63000DRCT; Dynamic Voltage Scaling: TRUE; Iout(Max)(A): 1.2; Iq(Typ)(mA): 0.04; Regulated Outputs(#): 1; SubFamily: Buck-Boost Regulator; Switching Frequency(Max)(kHz): 1500; Vin(Max)(V): 5.5; Vin(Min)(V): 1.8; DatasheetVersion: SLVS520B; PackageVersion: revL, Sep-2011; PackageReference: DRC10-2400X1650TP; PackageDescription: 10-Pin Plastic Small Outline No-Lead, 3 x 3 x 1 mm Body, 0.5 mm Pitch, Exposed Pad; Supplier 1: Digi-Key; Supplier Part Number 1: 296-27031-2-ND; Supplier 2: Digi-Key; Supplier Part Number 2: 296-27031-1-ND; Supplier 3: Digi-Key; Supplier Part Number 3: 296-27031-6-ND; Supplier 4: Farnell; Supplier Part Number 4: 2118820; Supplier 5: Newark; Supplier Part Number 5: 22M1823; Supplier 6: Mouser; Supplier Part Number 6: 595-TPS63000DRCT; Eco-Plan: Green (RoHS & no Sb/Br); Synchronous Rectification: TRUE; Topology: Buck-Boost; Vout(Max)(V): 5.5; Vout(Min)(V): 1.2; Mounting Technology: Surface Mount; ComponentLink1Description: Datasheet; ComponentLink1URL: http://www.ti.com/general/docs/lit/getliterature.tsp?genericPartNumber=TPS63000&fileType=pdf; ComponentLink2Description: Package Specification; ComponentLink2URL: http://www.ti.com/litv/pdf/mpds117k
footprint DRC10-2400X1650TP (SON, 10-Leads, Body 3x3mm, Pitch 0.5mm, Thermal Pad 2.4x1.65mm, TI Recommended)
pins: 1 VOUT (power) "Buck-boost converter output", 2 L2 "Connection for Inductor", 3 PGND (power) "Power ground", 4 L1 "Connection for Inductor", 5 VIN (power) "Supply voltage for power stage", 6 EN (in) "Enable input. (1 enabled, 0 disabled)", 7 PS/SYNC (in) "Enable / disable power save mode (1 disabled, 0 enabled, clock signal for synchronization)", 8 VINA (power) "Supply voltage for control stage", 9 GND (power) "Control / logic ground", 10 FB (in) "Voltage feedback of adjustable versions, must be connected to VOUT on fixed output voltage versions", 11 PP (power) "Must be soldered to achieve appropriate power dissipation. Should be connected to PGND."

## TPS63000DRCTG4
designator U?
Buck-Boost Voltage Converter with 1.8 to 5.5 V Input and 1.2 to 5.5 V Output, -40 to 85 degC, 10-Pin SON (DRC), Green (RoHS & no Sb/Br); Manufacturer: Texas Instruments; PartNumber: TPS63000DRCTG4; Dynamic Voltage Scaling: TRUE; Iout(Max)(A): 1.2; Iq(Typ)(mA): 0.04; Regulated Outputs(#): 1; SubFamily: Buck-Boost Regulator; Switching Frequency(Max)(kHz): 1500; Vin(Max)(V): 5.5; Vin(Min)(V): 1.8; DatasheetVersion: SLVS520B; PackageVersion: revL, Sep-2011; PackageReference: DRC10-2400X1650TP; PackageDescription: 10-Pin Plastic Small Outline No-Lead, 3 x 3 x 1 mm Body, 0.5 mm Pitch, Exposed Pad; Supplier 1: Digi-Key; Supplier Part Number 1: TPS63000DRCTG4-ND; Supplier 2: Newark; Supplier Part Number 2: 27M1093; Supplier 3: Newark; Supplier Part Number 3: 59M7217; Supplier 4: Mouser; Supplier Part Number 4: 595-TPS63000DRCTG4; Eco-Plan: Green (RoHS & no Sb/Br); Synchronous Rectification: TRUE; Topology: Buck-Boost; Vout(Max)(V): 5.5; Vout(Min)(V): 1.2; Mounting Technology: Surface Mount; ComponentLink1Description: Datasheet; ComponentLink1URL: http://www.ti.com/general/docs/lit/getliterature.tsp?genericPartNumber=TPS63000&fileType=pdf; ComponentLink2Description: Package Specification; ComponentLink2URL: http://www.ti.com/litv/pdf/mpds117k
footprint DRC10-2400X1650TP (SON, 10-Leads, Body 3x3mm, Pitch 0.5mm, Thermal Pad 2.4x1.65mm, TI Recommended)
pins: 1 VOUT (power) "Buck-boost converter output", 2 L2 "Connection for Inductor", 3 PGND (power) "Power ground", 4 L1 "Connection for Inductor", 5 VIN (power) "Supply voltage for power stage", 6 EN (in) "Enable input. (1 enabled, 0 disabled)", 7 PS/SYNC (in) "Enable / disable power save mode (1 disabled, 0 enabled, clock signal for synchronization)", 8 VINA (power) "Supply voltage for control stage", 9 GND (power) "Control / logic ground", 10 FB (in) "Voltage feedback of adjustable versions, must be connected to VOUT on fixed output voltage versions", 11 PP (power) "Must be soldered to achieve appropriate power dissipation. Should be connected to PGND."

## TPS63000IDRCRQ1
designator U?
Buck-Boost Voltage Converter with 1.8 to 5.5 V Input and 1.2 to 5.5 V Output, -40 to 85 degC, 10-Pin SON (DRC), Green (RoHS & no Sb/Br); Manufacturer: Texas Instruments; PartNumber: TPS63000IDRCRQ1; Dynamic Voltage Scaling: TRUE; Iout(Max)(A): 1.2; Iq(Typ)(mA): 0.04; Regulated Outputs(#): 1; SubFamily: Buck-Boost Regulator; Switching Frequency(Max)(kHz): 1500; Vin(Max)(V): 5.5; Vin(Min)(V): 1.8; DatasheetVersion: SLVS968; PackageVersion: revL, Sep-2011; PackageReference: DRC10-2400X1650TP; PackageDescription: 10-Pin Plastic Small Outline No-Lead, 3 x 3 x 1 mm Body, 0.5 mm Pitch, Exposed Pad; Supplier 1: Digi-Key; Supplier Part Number 1: 296-24851-2-ND; Supplier 2: Digi-Key; Supplier Part Number 2: 296-24851-1-ND; Supplier 3: Digi-Key; Supplier Part Number 3: 296-24851-6-ND; Supplier 4: Newark; Supplier Part Number 4: 25R0127; Supplier 5: Mouser; Supplier Part Number 5: 595-TPS63000IDRCRQ1; Eco-Plan: Green (RoHS & no Sb/Br); Synchronous Rectification: TRUE; Topology: Buck-Boost; Vout(Max)(V): 5.5; Vout(Min)(V): 1.2; Mounting Technology: Surface Mount; ComponentLink1Description: Datasheet; ComponentLink1URL: http://www.ti.com/general/docs/lit/getliterature.tsp?genericPartNumber=TPS63000-Q1&fileType=pdf; ComponentLink2Description: Package Specification; ComponentLink2URL: http://www.ti.com/litv/pdf/mpds117k
footprint DRC10-2400X1650TP (SON, 10-Leads, Body 3x3mm, Pitch 0.5mm, Thermal Pad 2.4x1.65mm, TI Recommended)
pins: 1 VOUT (power) "Buck-boost converter output", 2 L2 "Connection for inductor", 3 PGND (power) "Power ground", 4 L1 "Connection for inductor", 5 VIN (power) "Supply voltage for power stage", 6 EN (in) "Enable input. 1 = enabled, 0 = disabled", 7 PS/SYNC (in) "Enable / disable power save mode. 1 = disabled, = 0 enabled. Clock signal for synchronization.", 8 VINA (power) "Supply voltage for control stage", 9 GND (power) "Control / logic ground", 10 FB (in) "Voltage feedback of adjustable version", 11 TP (power) "Must be soldered to the PCB to achieve appropriate power dissipation. Connect to PGND."

## TPS63001DRCR
designator U?
Buck-Boost Voltage Converter with 1.8 to 5.5 V Input and 3.3 V Output, -40 to 85 degC, 10-Pin SON (DRC), Green (RoHS & no Sb/Br); Manufacturer: Texas Instruments; PartNumber: TPS63001DRCR; Dynamic Voltage Scaling: TRUE; Iout(Max)(A): 1.2; Iq(Typ)(mA): 0.03; Preset Vout(V): 3.3; Regulated Outputs(#): 1; SubFamily: Buck-Boost Regulator; Switching Frequency(Max)(kHz): 1500; Vin(Max)(V): 5.5; Vin(Min)(V): 1.8; DatasheetVersion: SLVS520B; PackageVersion: revL, Sep-2011; PackageReference: DRC10-2400X1650TP; PackageDescription: 10-Pin Plastic Small Outline No-Lead, 3 x 3 x 1 mm Body, 0.5 mm Pitch, Exposed Pad; Supplier 1: Digi-Key; Supplier Part Number 1: 296-19643-2-ND; Supplier 2: Digi-Key; Supplier Part Number 2: 296-19643-1-ND; Supplier 3: Digi-Key; Supplier Part Number 3: 296-19643-6-ND; Supplier 4: Farnell; Supplier Part Number 4: 1412595; Supplier 5: Newark; Supplier Part Number 5: 85K1711; Supplier 6: Mouser; Supplier Part Number 6: 595-TPS63001DRCR; Eco-Plan: Green (RoHS & no Sb/Br); Synchronous Rectification: TRUE; Topology: Buck-Boost; Vout(Max)(V): 3.3; Vout(Min)(V): 3.3; Mounting Technology: Surface Mount; ComponentLink1Description: Datasheet; ComponentLink1URL: http://www.ti.com/general/docs/lit/getliterature.tsp?genericPartNumber=TPS63001&fileType=pdf; ComponentLink2Description: Package Specification; ComponentLink2URL: http://www.ti.com/litv/pdf/mpds117k
footprint DRC10-2400X1650TP (SON, 10-Leads, Body 3x3mm, Pitch 0.5mm, Thermal Pad 2.4x1.65mm, TI Recommended)
pins: 1 VOUT (power) "Buck-boost converter output", 2 L2 "Connection for Inductor", 3 PGND (power) "Power ground", 4 L1 "Connection for Inductor", 5 VIN (power) "Supply voltage for power stage", 6 EN (in) "Enable input. (1 enabled, 0 disabled)", 7 PS/SYNC (in) "Enable / disable power save mode (1 disabled, 0 enabled, clock signal for synchronization)", 8 VINA (power) "Supply voltage for control stage", 9 GND (power) "Control / logic ground", 10 FB (in) "Voltage feedback of adjustable versions, must be connected to VOUT on fixed output voltage versions", 11 PP (power) "Must be soldered to achieve appropriate power dissipation. Should be connected to PGND."

## TPS63001DRCRG4
designator U?
Buck-Boost Voltage Converter with 1.8 to 5.5 V Input and 3.3 V Output, -40 to 85 degC, 10-Pin SON (DRC), Green (RoHS & no Sb/Br); Manufacturer: Texas Instruments; PartNumber: TPS63001DRCRG4; Dynamic Voltage Scaling: TRUE; Iout(Max)(A): 1.2; Iq(Typ)(mA): 0.03; Preset Vout(V): 3.3; Regulated Outputs(#): 1; SubFamily: Buck-Boost Regulator; Switching Frequency(Max)(kHz): 1500; Vin(Max)(V): 5.5; Vin(Min)(V): 1.8; DatasheetVersion: SLVS520B; PackageVersion: revL, Sep-2011; PackageReference: DRC10-2400X1650TP; PackageDescription: 10-Pin Plastic Small Outline No-Lead, 3 x 3 x 1 mm Body, 0.5 mm Pitch, Exposed Pad; Supplier 1: Digi-Key; Supplier Part Number 1: TPS63001DRCRG4-ND; Supplier 2: Newark; Supplier Part Number 2: 85K1712; Supplier 3: Mouser; Supplier Part Number 3: 595-TPS63001DRCRG4; Eco-Plan: Green (RoHS & no Sb/Br); Synchronous Rectification: TRUE; Topology: Buck-Boost; Vout(Max)(V): 3.3; Vout(Min)(V): 3.3; Mounting Technology: Surface Mount; ComponentLink1Description: Datasheet; ComponentLink1URL: http://www.ti.com/general/docs/lit/getliterature.tsp?genericPartNumber=TPS63001&fileType=pdf; ComponentLink2Description: Package Specification; ComponentLink2URL: http://www.ti.com/litv/pdf/mpds117k
footprint DRC10-2400X1650TP (SON, 10-Leads, Body 3x3mm, Pitch 0.5mm, Thermal Pad 2.4x1.65mm, TI Recommended)
pins: 1 VOUT (power) "Buck-boost converter output", 2 L2 "Connection for Inductor", 3 PGND (power) "Power ground", 4 L1 "Connection for Inductor", 5 VIN (power) "Supply voltage for power stage", 6 EN (in) "Enable input. (1 enabled, 0 disabled)", 7 PS/SYNC (in) "Enable / disable power save mode (1 disabled, 0 enabled, clock signal for synchronization)", 8 VINA (power) "Supply voltage for control stage", 9 GND (power) "Control / logic ground", 10 FB (in) "Voltage feedback of adjustable versions, must be connected to VOUT on fixed output voltage versions", 11 PP (power) "Must be soldered to achieve appropriate power dissipation. Should be connected to PGND."

## TPS63001DRCT
designator U?
Buck-Boost Voltage Converter with 1.8 to 5.5 V Input and 3.3 V Output, -40 to 85 degC, 10-Pin SON (DRC), Green (RoHS & no Sb/Br); Manufacturer: Texas Instruments; PartNumber: TPS63001DRCT; Dynamic Voltage Scaling: TRUE; Iout(Max)(A): 1.2; Iq(Typ)(mA): 0.03; Preset Vout(V): 3.3; Regulated Outputs(#): 1; SubFamily: Buck-Boost Regulator; Switching Frequency(Max)(kHz): 1500; Vin(Max)(V): 5.5; Vin(Min)(V): 1.8; DatasheetVersion: SLVS520B; PackageVersion: revL, Sep-2011; PackageReference: DRC10-2400X1650TP; PackageDescription: 10-Pin Plastic Small Outline No-Lead, 3 x 3 x 1 mm Body, 0.5 mm Pitch, Exposed Pad; Supplier 1: Digi-Key; Supplier Part Number 1: 296-32517-2-ND; Supplier 2: Digi-Key; Supplier Part Number 2: 296-32517-1-ND; Supplier 3: Digi-Key; Supplier Part Number 3: 296-32517-6-ND; Supplier 4: Farnell; Supplier Part Number 4: 1652399; Supplier 5: Newark; Supplier Part Number 5: 22M1824; Supplier 6: Mouser; Supplier Part Number 6: 595-TPS63001DRCT; Eco-Plan: Green (RoHS & no Sb/Br); Synchronous Rectification: TRUE; Topology: Buck-Boost; Vout(Max)(V): 3.3; Vout(Min)(V): 3.3; Mounting Technology: Surface Mount; ComponentLink1Description: Datasheet; ComponentLink1URL: http://www.ti.com/general/docs/lit/getliterature.tsp?genericPartNumber=TPS63001&fileType=pdf; ComponentLink2Description: Package Specification; ComponentLink2URL: http://www.ti.com/litv/pdf/mpds117k
footprint DRC10-2400X1650TP (SON, 10-Leads, Body 3x3mm, Pitch 0.5mm, Thermal Pad 2.4x1.65mm, TI Recommended)
pins: 1 VOUT (power) "Buck-boost converter output", 2 L2 "Connection for Inductor", 3 PGND (power) "Power ground", 4 L1 "Connection for Inductor", 5 VIN (power) "Supply voltage for power stage", 6 EN (in) "Enable input. (1 enabled, 0 disabled)", 7 PS/SYNC (in) "Enable / disable power save mode (1 disabled, 0 enabled, clock signal for synchronization)", 8 VINA (power) "Supply voltage for control stage", 9 GND (power) "Control / logic ground", 10 FB (in) "Voltage feedback of adjustable versions, must be connected to VOUT on fixed output voltage versions", 11 PP (power) "Must be soldered to achieve appropriate power dissipation. Should be connected to PGND."

## TPS63001DRCTG4
designator U?
Buck-Boost Voltage Converter with 1.8 to 5.5 V Input and 3.3 V Output, -40 to 85 degC, 10-Pin SON (DRC), Green (RoHS & no Sb/Br); Manufacturer: Texas Instruments; PartNumber: TPS63001DRCTG4; Dynamic Voltage Scaling: TRUE; Iout(Max)(A): 1.2; Iq(Typ)(mA): 0.03; Preset Vout(V): 3.3; Regulated Outputs(#): 1; SubFamily: Buck-Boost Regulator; Switching Frequency(Max)(kHz): 1500; Vin(Max)(V): 5.5; Vin(Min)(V): 1.8; DatasheetVersion: SLVS520B; PackageVersion: revL, Sep-2011; PackageReference: DRC10-2400X1650TP; PackageDescription: 10-Pin Plastic Small Outline No-Lead, 3 x 3 x 1 mm Body, 0.5 mm Pitch, Exposed Pad; Supplier 1: Digi-Key; Supplier Part Number 1: TPS63001DRCTG4-ND; Supplier 2: Newark; Supplier Part Number 2: 27M1094; Supplier 3: Mouser; Supplier Part Number 3: 595-TPS63001DRCTG4; Eco-Plan: Green (RoHS & no Sb/Br); Synchronous Rectification: TRUE; Topology: Buck-Boost; Vout(Max)(V): 3.3; Vout(Min)(V): 3.3; Mounting Technology: Surface Mount; ComponentLink1Description: Datasheet; ComponentLink1URL: http://www.ti.com/general/docs/lit/getliterature.tsp?genericPartNumber=TPS63001&fileType=pdf; ComponentLink2Description: Package Specification; ComponentLink2URL: http://www.ti.com/litv/pdf/mpds117k
footprint DRC10-2400X1650TP (SON, 10-Leads, Body 3x3mm, Pitch 0.5mm, Thermal Pad 2.4x1.65mm, TI Recommended)
pins: 1 VOUT (power) "Buck-boost converter output", 2 L2 "Connection for Inductor", 3 PGND (power) "Power ground", 4 L1 "Connection for Inductor", 5 VIN (power) "Supply voltage for power stage", 6 EN (in) "Enable input. (1 enabled, 0 disabled)", 7 PS/SYNC (in) "Enable / disable power save mode (1 disabled, 0 enabled, clock signal for synchronization)", 8 VINA (power) "Supply voltage for control stage", 9 GND (power) "Control / logic ground", 10 FB (in) "Voltage feedback of adjustable versions, must be connected to VOUT on fixed output voltage versions", 11 PP (power) "Must be soldered to achieve appropriate power dissipation. Should be connected to PGND."

## TPS63002DRCR
designator U?
Buck-Boost Voltage Converter with 1.8 to 5.5 V Input and 5 V Output, -40 to 85 degC, 10-Pin SON (DRC), Green (RoHS & no Sb/Br); Manufacturer: Texas Instruments; PartNumber: TPS63002DRCR; Dynamic Voltage Scaling: TRUE; Iout(Max)(A): 1.2; Iq(Typ)(mA): 0.03; Preset Vout(V): 5; Regulated Outputs(#): 1; SubFamily: Buck-Boost Regulator; Switching Frequency(Max)(kHz): 1500; Vin(Max)(V): 5.5; Vin(Min)(V): 1.8; DatasheetVersion: SLVS520B; PackageVersion: revL, Sep-2011; PackageReference: DRC10-2400X1650TP; PackageDescription: 10-Pin Plastic Small Outline No-Lead, 3 x 3 x 1 mm Body, 0.5 mm Pitch, Exposed Pad; Supplier 1: Digi-Key; Supplier Part Number 1: 296-19644-2-ND; Supplier 2: Digi-Key; Supplier Part Number 2: 296-19644-1-ND; Supplier 3: Digi-Key; Supplier Part Number 3: 296-19644-6-ND; Supplier 4: Farnell; Supplier Part Number 4: 1576333; Supplier 5: Newark; Supplier Part Number 5: 85K1713; Supplier 6: Mouser; Supplier Part Number 6: 595-TPS63002DRCR; Eco-Plan: Green (RoHS & no Sb/Br); Synchronous Rectification: TRUE; Topology: Buck-Boost; Vout(Max)(V): 5; Vout(Min)(V): 5; Mounting Technology: Surface Mount; ComponentLink1Description: Datasheet; ComponentLink1URL: http://www.ti.com/general/docs/lit/getliterature.tsp?genericPartNumber=TPS63002&fileType=pdf; ComponentLink2Description: Package Specification; ComponentLink2URL: http://www.ti.com/litv/pdf/mpds117k
footprint DRC10-2400X1650TP (SON, 10-Leads, Body 3x3mm, Pitch 0.5mm, Thermal Pad 2.4x1.65mm, TI Recommended)
pins: 1 VOUT (power) "Buck-boost converter output", 2 L2 "Connection for Inductor", 3 PGND (power) "Power ground", 4 L1 "Connection for Inductor", 5 VIN (power) "Supply voltage for power stage", 6 EN (in) "Enable input. (1 enabled, 0 disabled)", 7 PS/SYNC (in) "Enable / disable power save mode (1 disabled, 0 enabled, clock signal for synchronization)", 8 VINA (power) "Supply voltage for control stage", 9 GND (power) "Control/logic ground", 10 FB (in) "Voltage feedback of adjustable versions, must be connected to VOUT on fixed output voltage versions", 11 PP (power) "Must be soldered to achieve appropriate power dissipation. Should be connected to PGND."